# Altium schematic symbol library active.SchLib: 4 symbols
Pins are listed as number, name and electrical type; pins without a type are passive.

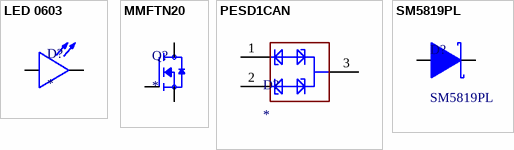
[diagram p0: symbols LED 0603 to SM5819PL]

## LED 0603
designator D?
Green 560nm LED Indication - Discrete 2.2V 0603 (1608 Metric); MF: Rohm; MP: SML-D12P8WT86; SnapEDA_Link: https://www.snapeda.com/parts/SML-D12P8WT86/Rohm/view-part/?ref=snap; Package: 0603 Rohm; Value: *; Check_prices: https://www.snapeda.com/parts/SML-D12P8WT86/Rohm/view-part/?ref=eda
footprint LED 0603
pins: 1, 2

## MMFTN20
designator Q?
MOSFET, SOT-23, N, 50V, 0.1A, 15â„¦, 150Â°C; MF: Diotec Semiconductor; MP: MMFTN20; SnapEDA_Link: https://www.snapeda.com/parts/MMFTN20/Diotec/view-part/?ref=snap; Package: SOT-23 Diotec; Value: *; Check_prices: https://www.snapeda.com/parts/MMFTN20/Diotec/view-part/?ref=eda
footprint SOT23-3 (SOT23, 3-Leads, Body 2.90x2.45mm, Pitch 0.95mm, IPC Medium Density)
pins: 1 G, 2 S, 3 D

## PESD1CAN
designator D?
50V Clamp 3A (8/20Âµs) Ipp Tvs Diode Surface Mount SOT-323; MF: Nexperia USA; MP: PESD1CAN; SnapEDA_Link: https://www.snapeda.com/parts/PESD1CAN/Nexperia/view-part/?ref=snap; Package: SOT-23-3 NXP Semiconductors; Value: *; Check_prices: https://www.snapeda.com/parts/PESD1CAN/Nexperia/view-part/?ref=eda
footprint SOT23-3 (SOT23, 3-Leads, Body 2.90x2.45mm, Pitch 0.95mm, IPC Medium Density)
pins: 1, 2, 3

## SM5819PL
designator D?
Schottky Diode, 40V, 1A
footprint SOD-123FL (SODFL, 2-Leads, Body 1.65x3.58mm, IPC Medium Density)
pins: 1, 2